# EAGLE library part CONN-CABLE-8 (library bontor)
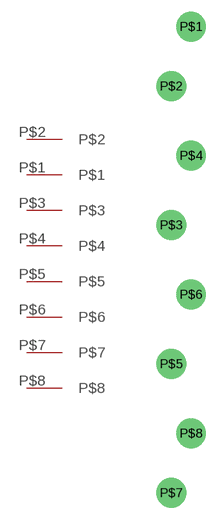
[diagram p10: symbol with the pads of CONN-CABLE-8; footprint CONN-CABLE-8]

Designator prefix -

## CONN-CABLE-8  [CONN-CABLE-8]
P$1  P$1
P$2  P$2
P$3  P$3
P$4  P$4
P$5  P$5
P$6  P$6
P$7  P$7
P$8  P$8

## Footprint CONN-CABLE-8 (pad centres in mm)
drill 2.8 pad 3.81: P$1 0,30.48; P$2 -2.54,22.86; P$3 -2.54,5.08; P$4 0,13.97; P$5 -2.54,-12.7; P$6 0,-3.81; P$7 -2.54,-29.21; P$8 0,-21.59